# EAGLE library part LM2776 (library ICs)
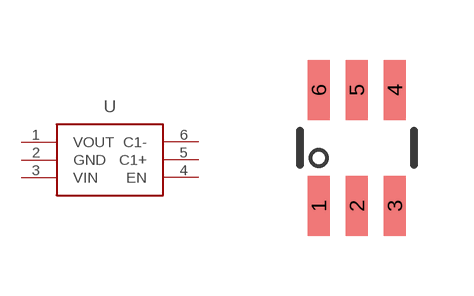
[diagram p21: symbol with the pads of SOT23-6; footprint SOT23-6]

Designator prefix -

## LM2776  [SOT23-6]
1  VOUT  out
2  GND
3  VIN  in
4  EN  in
5  C1+
6  C1-

## Footprint SOT23-6 (pad centres in mm)
smd 0.55 x 1.5: 1 -0.95,-1.45; 2 0,-1.45; 3 0.95,-1.45; 4 0.95,1.45; 5 0,1.45; 6 -0.95,1.45